# Altium schematic symbol library DLF162500LT-5028A1.SCHLIB: 1 symbol
Pins are listed as number, name and electrical type; pins without a type are passive.

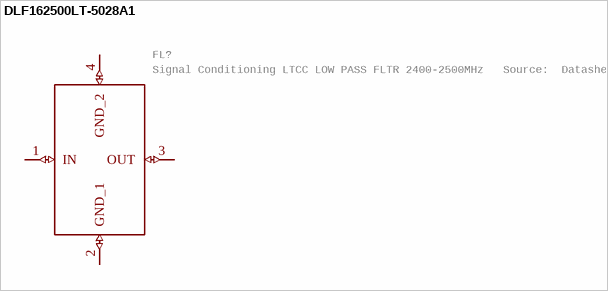
[diagram p0: symbol DLF162500LT-5028A1]

## DLF162500LT-5028A1
designator FL?, comment Signal Conditioning LTCC LOW PASS FLTR 2400-2500MHz   Source:  Datasheet
Manufacturer_Name: TDK; GateName_1: G$1; SymbolName_1: DLF162500LT-5028A1; LibraryName: DLF162500LT-5028A1; DeviceSetName: DLF162500LT-5028A1; Package: DLF162500LT5028A1; Manufacturer_Part_Number: DLF162500LT-5028A1; Mouser_Part_Number: 810-DLF16250LT5028A1; Mouser_Price-Stock: https://www.mouser.co.uk/ProductDetail/TDK/DLF162500LT-5028A1?qs=U%2FZX79kHR%2FlwIbAISCs3qA%3D%3D; Arrow_Part_Number: DLF162500LT-5028A1; Arrow_Price-Stock: https://www.arrow.com/en/products/dlf162500lt-5028a1/tdk?region=nac; Description: Signal Conditioning LTCC LOW PASS FLTR 2400-2500MHz; Height: 0.4mm
footprint DLF162500LT5028A1
pins: 1 IN (io), 2 GND_1 (io), 3 OUT (io), 4 GND_2 (io)